# EAGLE library part R5F72165ADFPV1 (library Labops_Lib_AH)
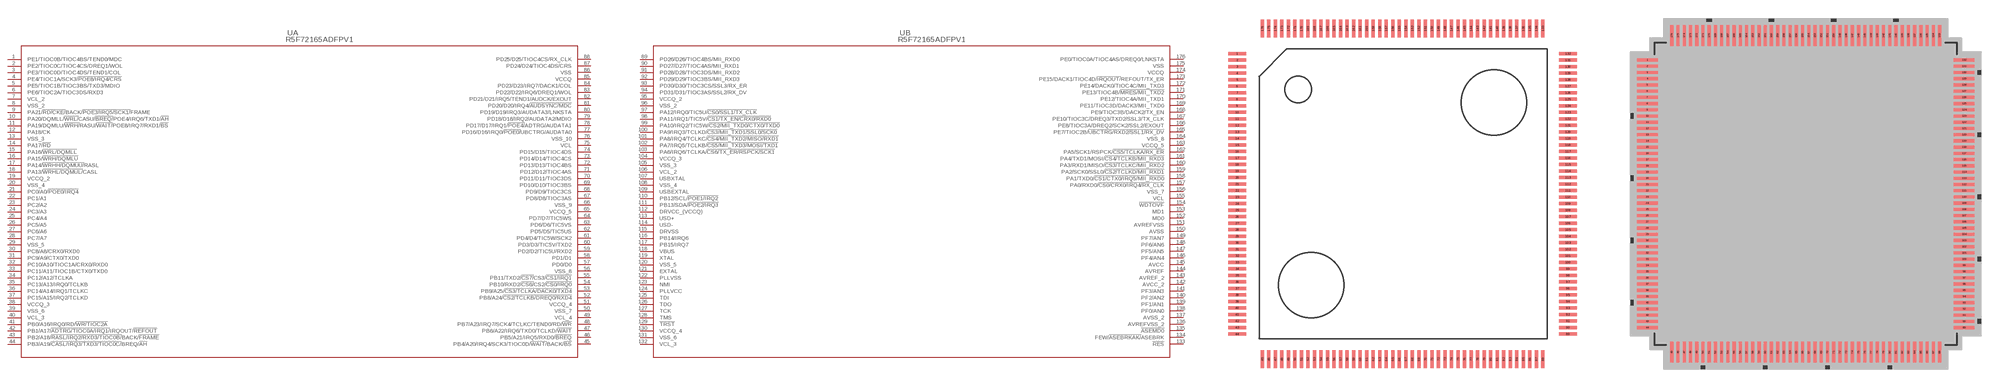
[diagram p23: symbol with the pads of LQFP176_24X24; footprints LQFP176_24X24, LQFP176_24X24-M]

Designator prefix U; gates A=R5F72165ADFPV1_A B=R5F72165ADFPV1_B

## R5F72165ADFPV1 (MANUFACTURER_PART_NUMBER: R5F72165ADFP#V1; VENDOR: Renesas Electronics)  [LQFP176_24X24]
1  A:PE1/TIOC0B/TIOC4BS/TEND0/MDC  pas
2  A:PE2/TIOC0C/TIOC4CS/DREQ1/WOL  pas
3  A:PE3/TIOC0D/TIOC4DS/TEND1/COL  pas
4  A:PE4/TIOC1A/SCK3/!POE8/IRQ4/CRS  pas
5  A:PE5/TIOC1B/TIOC3BS/TXD3/MDIO  pas
6  A:PE6/TIOC2A/TIOC3DS/RXD3  pas
7  A:VCL_2  pwr
8  A:VSS_2  pwr
9  A:PA21/!RD/CKE/!BACK/!POE3/IRQ5/SCK1/!FRAME  pas
10  A:PA20/DQMLL/!WRL/!CASU/!BREQ/!POE4/IRQ6/TXD1/!AH  pas
11  A:PA19/DQMLU/!WRH/!RASU/!WAIT/!POE8/IRQ7/RXD1/!BS  pas
12  A:PA18/CK  pas
13  A:VSS_3  pwr
14  A:PA17/!RD  pas
15  A:PA16/!WRL/DQMLL  pas
16  A:PA15/!WRH/DQMLU  pas
17  A:PA14/!WRHH/DQMUU/!RASL  pas
18  A:PA13/!WRHL/DQMUL/!CASL  pas
19  A:VCCQ_2  pwr
20  A:VSS_4  pwr
21  A:PC0/A0/!POE0/IRQ4  pas
22  A:PC1/A1  pas
23  A:PC2/A2  pas
24  A:PC3/A3  pas
25  A:PC4/A4  pas
26  A:PC5/A5  pas
27  A:PC6/A6  pas
28  A:PC7/A7  pas
29  A:VSS_5  pwr
30  A:PC8/A8/CRX0/RXD0  pas
31  A:PC9/A9/CTX0/TXD0  pas
32  A:PC10/A10/TIOC1A/CRX0/RXD0  pas
33  A:PC11/A11/TIOC1B/CTX0/TXD0  pas
34  A:PC12/A12/TCLKA  pas
35  A:PC13/A13/IRQ0/TCLKB  pas
36  A:PC14/A14/IRQ1/TCLKC  pas
37  A:PC15/A15/IRQ2/TCLKD  pas
38  A:VCCQ_3  pwr
39  A:VSS_6  pwr
40  A:VCL_3  pwr
41  A:PB0/A16/IRQ0/RD/!WR/TIOC2A  pas
42  A:PB1/A17/!ADTRG/TIOC0A/IRQ1/!IRQOUT/!REFOUT  pas
43  A:PB2/A18/!RASL/IRQ2/RXD3/TIOC0B/!BACK/!FRAME  pas
44  A:PB3/A19/!CASL/IRQ3/TXD3/TIOC0C/!BREQ/!AH  pas
45  A:PB4/A20/IRQ4/SCK3/TIOC0D/!WAIT/!BACK/!BS  pas
46  A:PB5/A21/IRQ5/RXD0/!BREQ  pas
47  A:PB6/A22/IRQ6/TXD0/TCLKD/!WAIT  pas
48  A:PB7/A23/IRQ7/SCK4/TCLKC/TEND0/RD/!WR  pas
49  A:VCL_4  pwr
50  A:VSS_7  pwr
51  A:VCCQ_4  pwr
52  A:PB8/A24/!CS2/TCLKB/DREQ0/RXD4  pas
53  A:PB9/A25/!CS3/TCLKA/DACK0/TXD4  pas
54  A:PB10/RXD2/!CS6/!CS2/!CS0/IRQ0  pas
55  A:PB11/TXD2/!CS7/!CS3/!CS1/IRQ1  pas
56  A:VSS_8  pwr
57  A:PD0/D0  pas
58  A:PD1/D1  pas
59  A:PD2/D2/TIC5U/RXD2  pas
60  A:PD3/D3/TIC5V/TXD2  pas
61  A:PD4/D4/TIC5W/SCK2  pas
62  A:PD5/D5/TIC5US  pas
63  A:PD6/D6/TIC5VS  pas
64  A:PD7/D7/TIC5WS  pas
65  A:VCCQ_5  pwr
66  A:VSS_9  pwr
67  A:PD8/D8/TIOC3AS  pas
68  A:PD9/D9/TIOC3CS  pas
69  A:PD10/D10/TIOC3BS  pas
70  A:PD11/D11/TIOC3DS  pas
71  A:PD12/D12/TIOC4AS  pas
72  A:PD13/D13/TIOC4BS  pas
73  A:PD14/D14/TIOC4CS  pas
74  A:PD15/D15/TIOC4DS  pas
75  A:VCL  pwr
76  A:VSS_10  pwr
77  A:PD16/D16/IRQ0/!POE0/!UBCTRG/AUDATA0  pas
78  A:PD17/D17/IRQ1/!POE4/!ADTRG/AUDATA1  pas
79  A:PD18/D18/IRQ2/AUDATA2/MDIO  pas
80  A:PD19/D19/IRQ3/AUDATA3/LNKSTA  pas
81  A:PD20/D20/IRQ4/!AUDSYNC/MDC  pas
82  A:PD21/D21/IRQ5/TEND1/AUDCK/EXOUT  pas
83  A:PD22/D22/IRQ6/DREQ1/WOL  pas
84  A:PD23/D23/IRQ7/DACK1/COL  pas
85  A:VCCQ  pwr
86  A:VSS  pwr
87  A:PD24/D24/TIOC4DS/CRS  pas
88  A:PD25/D25/TIOC4CS/RX_CLK  pas
89  B:PD26/D26/TIOC4BS/MII_RXD0  pas
90  B:PD27/D27/TIOC4AS/MII_RXD1  pas
91  B:PD28/D28/TIOC3DS/MII_RXD2  pas
92  B:PD29/D29/TIOC3BS/MII_RXD3  pas
93  B:PD30/D30/TIOC3CS/SSL3/RX_ER  pas
94  B:PD31/D31/TIOC3AS/SSL2/RX_DV  pas
95  B:VCCQ_2  pwr
96  B:VSS_2  pwr
97  B:PA12/IRQ0/TIC5U/!CS0/SSL1/TX_CLK  pas
98  B:PA11/IRQ1/TIC5V/!CS1/TX_EN/CRX0/RXD0  pas
99  B:PA10/IRQ2/TIC5W/!CS2/MII_TXD0/CTX0/TXD0  pas
100  B:PA9/IRQ3/TCLKD/!CS3/MII_TXD1/SSL0/SCK0  pas
101  B:PA8/IRQ4/TCLKC/!CS4/MII_TXD2/MISO/RXD1  pas
102  B:PA7/IRQ5/TCLKB/!CS5/MII_TXD3/MOSI/TXD1  pas
103  B:PA6/IRQ6/TCLKA/!CS6/TX_ER/RSPCK/SCK1  pas
104  B:VCCQ_3  pwr
105  B:VSS_3  pwr
106  B:VCL_2  pwr
107  B:USBXTAL  pas
108  B:VSS_4  pwr
109  B:USBEXTAL  pas
110  B:PB12/SCL/!POE1/IRQ2  pas
111  B:PB13/SDA/!POE2/IRQ3  pas
112  B:DRVCC_(VCCQ)  pwr
113  B:USD+  pas
114  B:USD-  pas
115  B:DRVSS  pwr
116  B:PB14/IRQ6  pas
117  B:PB15/IRQ7  pas
118  B:VBUS  pwr
119  B:XTAL  pas
120  B:VSS_5  pwr
121  B:EXTAL  pas
122  B:PLLVSS  pwr
123  B:NMI  pas
124  B:PLLVCC  pwr
125  B:TDI  pas
126  B:TDO  pas
127  B:TCK  pas
128  B:TMS  pas
129  B:!TRST  pas
130  B:VCCQ_4  pwr
131  B:VSS_6  pwr
132  B:VCL_3  pwr
133  B:!RES  pas
134  B:FEW/!ASEBRKAK/!ASEBRK  pas
135  B:!ASEMD0  pas
136  B:AVREFVSS_2  pwr
137  B:AVSS_2  pwr
138  B:PF0/AN0  pas
139  B:PF1/AN1  pas
140  B:PF2/AN2  pas
141  B:PF3/AN3  pas
142  B:AVCC_2  pwr
143  B:AVREF_2  pwr
144  B:AVREF  pwr
145  B:AVCC  pwr
146  B:PF4/AN4  pas
147  B:PF5/AN5  pas
148  B:PF6/AN6  pas
149  B:PF7/AN7  pas
150  B:AVSS  pwr
151  B:AVREFVSS  pwr
152  B:MD0  pas
153  B:MD1  pas
154  B:!WDTOVF  pas
155  B:VCL  pwr
156  B:VSS_7  pwr
157  B:PA0/RXD0/!CS0/CRX0/IRQ4/RX_CLK  pas
158  B:PA1/TXD0/!CS1/CTX0/IRQ5/MII_RXD0  pas
159  B:PA2/SCK0/SSL0/!CS2/TCLKD/MII_RXD1  pas
160  B:PA3/RXD1/MISO/!CS3/TCLKC/MII_RXD2  pas
161  B:PA4/TXD1/MOSI/!CS4/TCLKB/MII_RXD3  pas
162  B:PA5/SCK1/RSPCK/!CS5/TCLKA/RX_ER  pas
163  B:VCCQ_5  pwr
164  B:VSS_8  pwr
165  B:PE7/TIOC2B/!UBCTRG/RXD2/SSL1/RX_DV  pas
166  B:PE8/TIOC3A/DREQ2/SCK2/SSL2/EXOUT  pas
167  B:PE10/TIOC3C/DREQ3/TXD2/SSL3/TX_CLK  pas
168  B:PE9/TIOC3B/DACK2/TX_EN  pas
169  B:PE11/TIOC3D/DACK3/MII_TXD0  pas
170  B:PE12/TIOC4A/MII_TXD1  pas
171  B:PE13/TIOC4B/!MRES/MII_TXD2  pas
172  B:PE14/DACK0/TIOC4C/MII_TXD3  pas
173  B:PE15/DACK1/TIOC4D/!IRQOUT/!REFOUT/TX_ER  pas
174  B:VCCQ  pwr
175  B:VSS  pwr
176  B:PE0/TIOC0A/TIOC4AS/DREQ0/LNKSTA  pas

## R5F72165ADFPV1LQFP176_24X24-M (MANUFACTURER_PART_NUMBER: R5F72165ADFP#V1; VENDOR: Renesas Electronics)  [LQFP176_24X24-M]
Pads as for LQFP176_24X24

## R5F72165ADFPV1LQFP176_24X24-L (MANUFACTURER_PART_NUMBER: R5F72165ADFP#V1; VENDOR: Renesas Electronics)  [LQFP176_24X24-L]
Pads as for LQFP176_24X24

## Footprint LQFP176_24X24 (pad centres in mm)
smd 1.372 x 0.254: 1 -12.675,10.75; 2 -12.675,10.25; 3 -12.675,9.75; 4 -12.675,9.25; 5 -12.675,8.75; 6 -12.675,8.25; 7 -12.675,7.75; 8 -12.675,7.25; 9 -12.675,6.75; 10 -12.675,6.25; 11 -12.675,5.75; 12 -12.675,5.25; 13 -12.675,4.75; 14 -12.675,4.25; 15 -12.675,3.75; 16 -12.675,3.25; 17 -12.675,2.75; 18 -12.675,2.25; 19 -12.675,1.75; 20 -12.675,1.25; 21 -12.675,0.75; 22 -12.675,0.25; 23 -12.675,-0.25; 24 -12.675,-0.75; 25 -12.675,-1.25; 26 -12.675,-1.75; 27 -12.675,-2.25; 28 -12.675,-2.75; 29 -12.675,-3.25; 30 -12.675,-3.75; 31 -12.675,-4.25; 32 -12.675,-4.75; 33 -12.675,-5.25; 34 -12.675,-5.75; 35 -12.675,-6.25; 36 -12.675,-6.75; 37 -12.675,-7.25; 38 -12.675,-7.75; 39 -12.675,-8.25; 40 -12.675,-8.75; 41 -12.675,-9.25; 42 -12.675,-9.75; 43 -12.675,-10.25; 44 -12.675,-10.75; 89 12.675,-10.75; 90 12.675,-10.25; 91 12.675,-9.75; 92 12.675,-9.25; 93 12.675,-8.75; 94 12.675,-8.25; 95 12.675,-7.75; 96 12.675,-7.25; 97 12.675,-6.75; 98 12.675,-6.25; 99 12.675,-5.75; 100 12.675,-5.25; 101 12.675,-4.75; 102 12.675,-4.25; 103 12.675,-3.75; 104 12.675,-3.25; 105 12.675,-2.75; 106 12.675,-2.25; 107 12.675,-1.75; 108 12.675,-1.25; 109 12.675,-0.75; 110 12.675,-0.25; 111 12.675,0.25; 112 12.675,0.75; 113 12.675,1.25; 114 12.675,1.75; 115 12.675,2.25; 116 12.675,2.75; 117 12.675,3.25; 118 12.675,3.75; 119 12.675,4.25; 120 12.675,4.75; 121 12.675,5.25; 122 12.675,5.75; 123 12.675,6.25; 124 12.675,6.75; 125 12.675,7.25; 126 12.675,7.75; 127 12.675,8.25; 128 12.675,8.75; 129 12.675,9.25; 130 12.675,9.75; 131 12.675,10.25; 132 12.675,10.75
smd 0.254 x 1.372: 45 -10.75,-12.675; 46 -10.25,-12.675; 47 -9.75,-12.675; 48 -9.25,-12.675; 49 -8.75,-12.675; 50 -8.25,-12.675; 51 -7.75,-12.675; 52 -7.25,-12.675; 53 -6.75,-12.675; 54 -6.25,-12.675; 55 -5.75,-12.675; 56 -5.25,-12.675; 57 -4.75,-12.675; 58 -4.25,-12.675; 59 -3.75,-12.675; 60 -3.25,-12.675; 61 -2.75,-12.675; 62 -2.25,-12.675; 63 -1.75,-12.675; 64 -1.25,-12.675; 65 -0.75,-12.675; 66 -0.25,-12.675; 67 0.25,-12.675; 68 0.75,-12.675; 69 1.25,-12.675; 70 1.75,-12.675; 71 2.25,-12.675; 72 2.75,-12.675; 73 3.25,-12.675; 74 3.75,-12.675; 75 4.25,-12.675; 76 4.75,-12.675; 77 5.25,-12.675; 78 5.75,-12.675; 79 6.25,-12.675; 80 6.75,-12.675; 81 7.25,-12.675; 82 7.75,-12.675; 83 8.25,-12.675; 84 8.75,-12.675; 85 9.25,-12.675; 86 9.75,-12.675; 87 10.25,-12.675; 88 10.75,-12.675; 133 10.75,12.675; 134 10.25,12.675; 135 9.75,12.675; 136 9.25,12.675; 137 8.75,12.675; 138 8.25,12.675; 139 7.75,12.675; 140 7.25,12.675; 141 6.75,12.675; 142 6.25,12.675; 143 5.75,12.675; 144 5.25,12.675; 145 4.75,12.675; 146 4.25,12.675; 147 3.75,12.675; 148 3.25,12.675; 149 2.75,12.675; 150 2.25,12.675; 151 1.75,12.675; 152 1.25,12.675; 153 0.75,12.675; 154 0.25,12.675; 155 -0.25,12.675; 156 -0.75,12.675; 157 -1.25,12.675; 158 -1.75,12.675; 159 -2.25,12.675; 160 -2.75,12.675; 161 -3.25,12.675; 162 -3.75,12.675; 163 -4.25,12.675; 164 -4.75,12.675; 165 -5.25,12.675; 166 -5.75,12.675; 167 -6.25,12.675; 168 -6.75,12.675; 169 -7.25,12.675; 170 -7.75,12.675; 171 -8.25,12.675; 172 -8.75,12.675; 173 -9.25,12.675; 174 -9.75,12.675; 175 -10.25,12.675; 176 -10.75,12.675

## Footprint LQFP176_24X24-M (pad centres in mm)
smd 1.676 x 0.254: 1 -12.725,10.75; 2 -12.725,10.25; 3 -12.725,9.75; 4 -12.725,9.25; 5 -12.725,8.75; 6 -12.725,8.25; 7 -12.725,7.75; 8 -12.725,7.25; 9 -12.725,6.75; 10 -12.725,6.25; 11 -12.725,5.75; 12 -12.725,5.25; 13 -12.725,4.75; 14 -12.725,4.25; 15 -12.725,3.75; 16 -12.725,3.25; 17 -12.725,2.75; 18 -12.725,2.25; 19 -12.725,1.75; 20 -12.725,1.25; 21 -12.725,0.75; 22 -12.725,0.25; 23 -12.725,-0.25; 24 -12.725,-0.75; 25 -12.725,-1.25; 26 -12.725,-1.75; 27 -12.725,-2.25; 28 -12.725,-2.75; 29 -12.725,-3.25; 30 -12.725,-3.75; 31 -12.725,-4.25; 32 -12.725,-4.75; 33 -12.725,-5.25; 34 -12.725,-5.75; 35 -12.725,-6.25; 36 -12.725,-6.75; 37 -12.725,-7.25; 38 -12.725,-7.75; 39 -12.725,-8.25; 40 -12.725,-8.75; 41 -12.725,-9.25; 42 -12.725,-9.75; 43 -12.725,-10.25; 44 -12.725,-10.75; 89 12.725,-10.75; 90 12.725,-10.25; 91 12.725,-9.75; 92 12.725,-9.25; 93 12.725,-8.75; 94 12.725,-8.25; 95 12.725,-7.75; 96 12.725,-7.25; 97 12.725,-6.75; 98 12.725,-6.25; 99 12.725,-5.75; 100 12.725,-5.25; 101 12.725,-4.75; 102 12.725,-4.25; 103 12.725,-3.75; 104 12.725,-3.25; 105 12.725,-2.75; 106 12.725,-2.25; 107 12.725,-1.75; 108 12.725,-1.25; 109 12.725,-0.75; 110 12.725,-0.25; 111 12.725,0.25; 112 12.725,0.75; 113 12.725,1.25; 114 12.725,1.75; 115 12.725,2.25; 116 12.725,2.75; 117 12.725,3.25; 118 12.725,3.75; 119 12.725,4.25; 120 12.725,4.75; 121 12.725,5.25; 122 12.725,5.75; 123 12.725,6.25; 124 12.725,6.75; 125 12.725,7.25; 126 12.725,7.75; 127 12.725,8.25; 128 12.725,8.75; 129 12.725,9.25; 130 12.725,9.75; 131 12.725,10.25; 132 12.725,10.75
smd 0.254 x 1.676: 45 -10.75,-12.725; 46 -10.25,-12.725; 47 -9.75,-12.725; 48 -9.25,-12.725; 49 -8.75,-12.725; 50 -8.25,-12.725; 51 -7.75,-12.725; 52 -7.25,-12.725; 53 -6.75,-12.725; 54 -6.25,-12.725; 55 -5.75,-12.725; 56 -5.25,-12.725; 57 -4.75,-12.725; 58 -4.25,-12.725; 59 -3.75,-12.725; 60 -3.25,-12.725; 61 -2.75,-12.725; 62 -2.25,-12.725; 63 -1.75,-12.725; 64 -1.25,-12.725; 65 -0.75,-12.725; 66 -0.25,-12.725; 67 0.25,-12.725; 68 0.75,-12.725; 69 1.25,-12.725; 70 1.75,-12.725; 71 2.25,-12.725; 72 2.75,-12.725; 73 3.25,-12.725; 74 3.75,-12.725; 75 4.25,-12.725; 76 4.75,-12.725; 77 5.25,-12.725; 78 5.75,-12.725; 79 6.25,-12.725; 80 6.75,-12.725; 81 7.25,-12.725; 82 7.75,-12.725; 83 8.25,-12.725; 84 8.75,-12.725; 85 9.25,-12.725; 86 9.75,-12.725; 87 10.25,-12.725; 88 10.75,-12.725; 133 10.75,12.725; 134 10.25,12.725; 135 9.75,12.725; 136 9.25,12.725; 137 8.75,12.725; 138 8.25,12.725; 139 7.75,12.725; 140 7.25,12.725; 141 6.75,12.725; 142 6.25,12.725; 143 5.75,12.725; 144 5.25,12.725; 145 4.75,12.725; 146 4.25,12.725; 147 3.75,12.725; 148 3.25,12.725; 149 2.75,12.725; 150 2.25,12.725; 151 1.75,12.725; 152 1.25,12.725; 153 0.75,12.725; 154 0.25,12.725; 155 -0.25,12.725; 156 -0.75,12.725; 157 -1.25,12.725; 158 -1.75,12.725; 159 -2.25,12.725; 160 -2.75,12.725; 161 -3.25,12.725; 162 -3.75,12.725; 163 -4.25,12.725; 164 -4.75,12.725; 165 -5.25,12.725; 166 -5.75,12.725; 167 -6.25,12.725; 168 -6.75,12.725; 169 -7.25,12.725; 170 -7.75,12.725; 171 -8.25,12.725; 172 -8.75,12.725; 173 -9.25,12.725; 174 -9.75,12.725; 175 -10.25,12.725; 176 -10.75,12.725

## Footprint LQFP176_24X24-L (pad centres in mm)
smd 1.067 x 0.254: 1 -12.624,10.75; 2 -12.624,10.25; 3 -12.624,9.75; 4 -12.624,9.25; 5 -12.624,8.75; 6 -12.624,8.25; 7 -12.624,7.75; 8 -12.624,7.25; 9 -12.624,6.75; 10 -12.624,6.25; 11 -12.624,5.75; 12 -12.624,5.25; 13 -12.624,4.75; 14 -12.624,4.25; 15 -12.624,3.75; 16 -12.624,3.25; 17 -12.624,2.75; 18 -12.624,2.25; 19 -12.624,1.75; 20 -12.624,1.25; 21 -12.624,0.75; 22 -12.624,0.25; 23 -12.624,-0.25; 24 -12.624,-0.75; 25 -12.624,-1.25; 26 -12.624,-1.75; 27 -12.624,-2.25; 28 -12.624,-2.75; 29 -12.624,-3.25; 30 -12.624,-3.75; 31 -12.624,-4.25; 32 -12.624,-4.75; 33 -12.624,-5.25; 34 -12.624,-5.75; 35 -12.624,-6.25; 36 -12.624,-6.75; 37 -12.624,-7.25; 38 -12.624,-7.75; 39 -12.624,-8.25; 40 -12.624,-8.75; 41 -12.624,-9.25; 42 -12.624,-9.75; 43 -12.624,-10.25; 44 -12.624,-10.75; 89 12.624,-10.75; 90 12.624,-10.25; 91 12.624,-9.75; 92 12.624,-9.25; 93 12.624,-8.75; 94 12.624,-8.25; 95 12.624,-7.75; 96 12.624,-7.25; 97 12.624,-6.75; 98 12.624,-6.25; 99 12.624,-5.75; 100 12.624,-5.25; 101 12.624,-4.75; 102 12.624,-4.25; 103 12.624,-3.75; 104 12.624,-3.25; 105 12.624,-2.75; 106 12.624,-2.25; 107 12.624,-1.75; 108 12.624,-1.25; 109 12.624,-0.75; 110 12.624,-0.25; 111 12.624,0.25; 112 12.624,0.75; 113 12.624,1.25; 114 12.624,1.75; 115 12.624,2.25; 116 12.624,2.75; 117 12.624,3.25; 118 12.624,3.75; 119 12.624,4.25; 120 12.624,4.75; 121 12.624,5.25; 122 12.624,5.75; 123 12.624,6.25; 124 12.624,6.75; 125 12.624,7.25; 126 12.624,7.75; 127 12.624,8.25; 128 12.624,8.75; 129 12.624,9.25; 130 12.624,9.75; 131 12.624,10.25; 132 12.624,10.75
smd 0.254 x 1.067: 45 -10.75,-12.624; 46 -10.25,-12.624; 47 -9.75,-12.624; 48 -9.25,-12.624; 49 -8.75,-12.624; 50 -8.25,-12.624; 51 -7.75,-12.624; 52 -7.25,-12.624; 53 -6.75,-12.624; 54 -6.25,-12.624; 55 -5.75,-12.624; 56 -5.25,-12.624; 57 -4.75,-12.624; 58 -4.25,-12.624; 59 -3.75,-12.624; 60 -3.25,-12.624; 61 -2.75,-12.624; 62 -2.25,-12.624; 63 -1.75,-12.624; 64 -1.25,-12.624; 65 -0.75,-12.624; 66 -0.25,-12.624; 67 0.25,-12.624; 68 0.75,-12.624; 69 1.25,-12.624; 70 1.75,-12.624; 71 2.25,-12.624; 72 2.75,-12.624; 73 3.25,-12.624; 74 3.75,-12.624; 75 4.25,-12.624; 76 4.75,-12.624; 77 5.25,-12.624; 78 5.75,-12.624; 79 6.25,-12.624; 80 6.75,-12.624; 81 7.25,-12.624; 82 7.75,-12.624; 83 8.25,-12.624; 84 8.75,-12.624; 85 9.25,-12.624; 86 9.75,-12.624; 87 10.25,-12.624; 88 10.75,-12.624; 133 10.75,12.624; 134 10.25,12.624; 135 9.75,12.624; 136 9.25,12.624; 137 8.75,12.624; 138 8.25,12.624; 139 7.75,12.624; 140 7.25,12.624; 141 6.75,12.624; 142 6.25,12.624; 143 5.75,12.624; 144 5.25,12.624; 145 4.75,12.624; 146 4.25,12.624; 147 3.75,12.624; 148 3.25,12.624; 149 2.75,12.624; 150 2.25,12.624; 151 1.75,12.624; 152 1.25,12.624; 153 0.75,12.624; 154 0.25,12.624; 155 -0.25,12.624; 156 -0.75,12.624; 157 -1.25,12.624; 158 -1.75,12.624; 159 -2.25,12.624; 160 -2.75,12.624; 161 -3.25,12.624; 162 -3.75,12.624; 163 -4.25,12.624; 164 -4.75,12.624; 165 -5.25,12.624; 166 -5.75,12.624; 167 -6.25,12.624; 168 -6.75,12.624; 169 -7.25,12.624; 170 -7.75,12.624; 171 -8.25,12.624; 172 -8.75,12.624; 173 -9.25,12.624; 174 -9.75,12.624; 175 -10.25,12.624; 176 -10.75,12.624